# Altium footprint library fszhang.PcbLib: 298 footprints (part 1 of 19)
Each footprint in its own frame and in the unit in brackets; x right, y up, seen from the top. Pads: shape width x height; smd on the part's side, far side on the other; paste and mask are expansions set on the pad; w line width, h text height; cw(c..) or ccw(c..) is an arc to the next point about the centre after c.
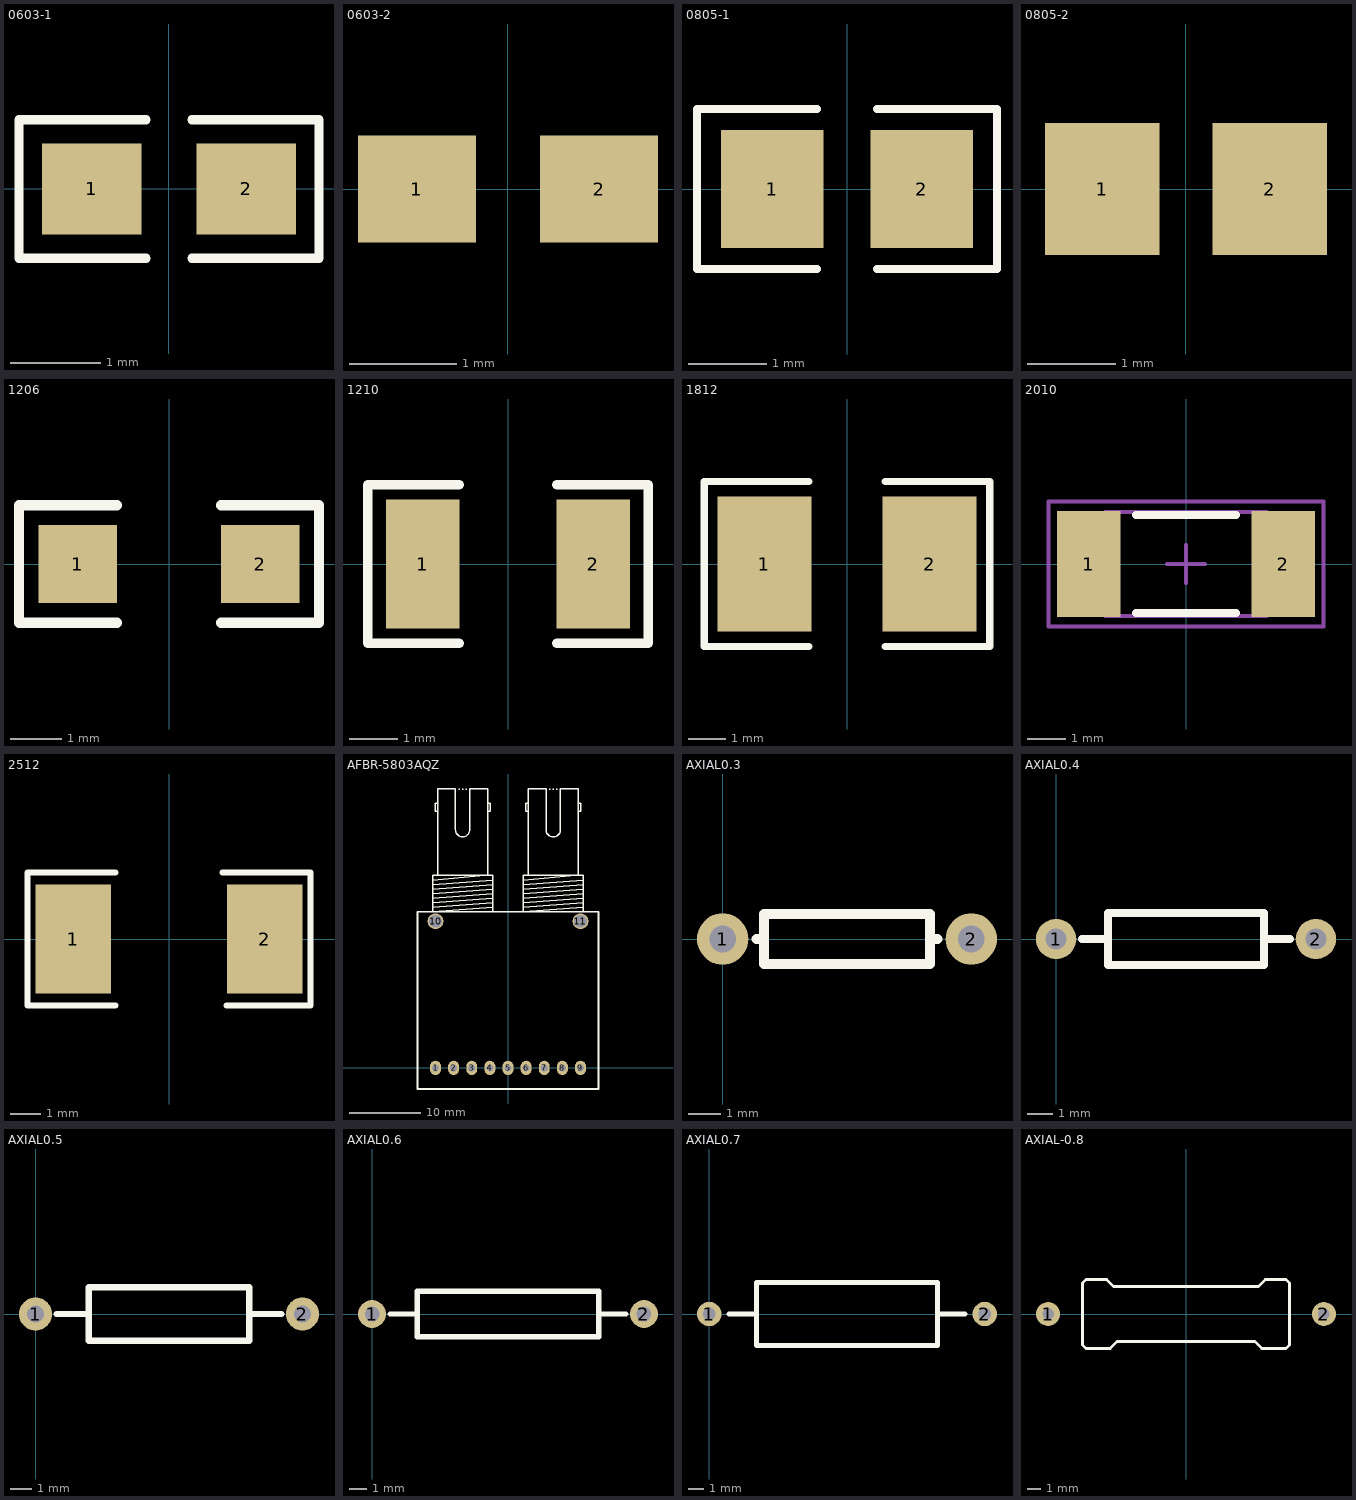
[diagram p0: the footprints below, top view; thin cyan lines are the x and y axes]

## 0603-1 [mm] "贴片带丝印"
height 0.6
pads (2):
  rect 1.1x1 smd: 1(-0.85,0) 2(0.85,0)
Top Overlay:
  lines w0.1: -0.254,-0.762 -1.651,-0.762 -1.651,0.762 -0.254,0.762 ; 0.254,-0.762 1.651,-0.762 1.651,0.762 0.254,0.762
3D body: height 1, standoff 0, extent -1.143,-0.381 1.143,0.381

## 0603-2 [mm] "贴片无丝印"
height 0.6
pads (2):
  rect 1.1x1 smd: 1(-0.85,0) 2(0.85,0)

## 0805-1 [mm] "贴片带丝印"
height 1.1
pads (2):
  rect 1.3x1.5 smd: 1(-0.95,0) 2(0.95,0)
Top Overlay:
  lines w0.1: -0.381,-1.016 -1.905,-1.016 -1.905,1.016 -0.381,1.016 ; 0.381,-1.016 1.905,-1.016 1.905,1.016 0.381,1.016
3D body: height 1, standoff 0, extent -1.143,-0.508 -1.016,0.508
3D body: height 1, standoff 0, extent 1.016,-0.508 1.143,0.508
3D body: height 1, standoff 0, extent -1.016,-0.508 1.016,0.508

## 0805-2 [mm] "贴片无丝印"
height 1
pads (2):
  rect 1.3x1.5 smd: 1(-0.95,0) 2(0.95,0)

## 1206 [mil] "贴片元件"
height 59.06
pads (2):
  rect 60x60 smd: 1(-70,0) 2(70,0)
Top Overlay:
  lines w7.87: -40,-45 -115,-45 -115,45 -40,45 ; 40,-45 115,-45 115,45 40,45
3D body: height 39.37, standoff 0, extent -55,-35 55,35
3D body: height 39.37, standoff 0, extent 55,-35 75,35
3D body: height 39.37, standoff 0, extent -75,-35 -55,35

## 1210 [mil] "贴片元件"
height 59.06
pads (2):
  rect 60x106.3 smd: 1(-70,0) 2(70,0)
Top Overlay:
  lines w7.87: -40,-65 -115,-65 -115,65 -40,65 ; 40,-65 115,-65 115,65 40,65
3D body: height 39.37, standoff 0, extent -65,-50 65,50

## 1812 [mm] "保险丝"
height 1
pads (2):
  rect 2.5x3.6 smd: 1(-2.2,0) 2(2.2,0)
Top Overlay:
  lines w0.2: -1.016,-2.2 -3.81,-2.2 -3.81,2.2 -1.016,2.2 ; 1.016,-2.2 3.81,-2.2 3.81,2.2 1.016,2.2
3D body: height 0.9, standoff 0, extent -2.54,0.635 -2.032,1.524
3D body: height 0.9, standoff 0, extent -2.54,-1.524 -2.032,-0.635
3D body: height 0.9, standoff 0, extent 2.159,-1.524 2.667,-0.635
3D body: height 0.9, standoff 0, extent 2.159,0.635 2.667,1.524
3D body: height 1.2, standoff 0, extent -2.286,-1.651 2.286,1.651

## 2010 [mm] "贴片电阻"
height 0.6
pads (2):
  rect 1.65x2.75 smd: 1(-2.525,0) 2(2.525,0)
Top Overlay:
  lines w0.2: -1.3,-1.275 1.3,-1.275 ; -1.3,1.275 1.3,1.275
Mechanical 13:
  lines w0.1: -2.1,-1.35 -2.1,1.35 2.1,1.35 2.1,-1.35 -2.1,-1.35
Mechanical 15:
  lines w0.1: -0.5,0 0.5,0 ; 0,-0.5 0,0.5 ; -3.575,-1.625 -3.575,1.625 3.575,1.625 3.575,-1.625 -3.575,-1.625
3D body: height 0.6, standoff 0, extent -2.1,-1.35 2.1,1.35

## 2512 [mm] "保险丝"
height 1
pads (2):
  rect 2.5x3.6 smd: 1(-3.175,0) 2(3.175,0)
Top Overlay:
  lines w0.2: -1.778,-2.2 -4.699,-2.2 -4.699,2.2 -1.778,2.2 ; 1.778,2.2 4.699,2.2 4.699,-2.2 1.905,-2.2
3D body: height 1.2, standoff 0, extent -3.175,-1.651 3.175,1.651
3D body: height 0.9, standoff 0, extent 2.159,0.635 2.667,1.524
3D body: height 0.9, standoff 0, extent 2.159,-1.524 2.667,-0.635
3D body: height 0.9, standoff 0, extent -2.54,-1.524 -2.032,-0.635
3D body: height 0.9, standoff 0, extent -2.54,0.635 -2.032,1.524

## AFBR-5803AQZ [mm] "光以太网"
height 14.8
pads (11):
  oval 1.524x2 hole 1: 1(-10.16,0) 2(-7.62,0) 3(-5.08,0) 4(-2.54,0) 5(0,0) 6(2.54,0) 7(5.08,0) 8(7.62,0) 9(10.16,0)
  round 2.2 hole 1.8: 10(-10.16,20.54) 11(10.16,20.54)
Top Overlay:
  lines w0.2: -10.559,23.15 -2.159,23.785 ; -10.559,23.785 -2.159,24.42 ; -10.559,24.42 -2.159,25.055 ; -10.559,25.055 -2.159,25.69 ; -10.559,25.69 -2.159,26.325 ; -10.559,26.325 -3.184,26.98 ; -10.55,22.515 -2.159,23.15 ; -9.859,35.985 -10.225,35.985 -10.225,37.085 -9.859,37.085 ; -7.359,33.378 ccw(c-6.359,33.378) -5.359,33.385 -5.359,39.08 -2.859,39.08 -2.859,26.98 -9.859,26.98 -9.859,39.08 -7.359,39.08 -7.359,33.378 ; -6.923,39.047 -6.796,39.047 ; -6.415,39.047 -6.288,39.047 ; -5.907,39.047 -5.78,39.047 ; -2.859,35.985 -2.478,35.985 -2.478,37.085 -2.859,37.085 ; -2.168,22.515 -10.559,21.88 ; 2.141,23.15 10.541,23.785 ; 2.141,23.785 10.541,24.42 ; 2.141,24.42 10.541,25.055 ; 2.141,25.055 10.541,25.69 ; 2.141,25.69 10.541,26.325 ; 2.141,26.325 9.516,26.98 ; 2.15,22.515 10.541,23.15 ; 2.841,35.985 2.475,35.985 2.475,37.085 2.841,37.085 ; 5.341,33.378 ccw(c6.341,33.378) 7.341,33.385 7.341,39.08 9.841,39.08 9.841,26.98 2.841,26.98 2.841,39.08 5.341,39.08 5.341,33.378 ; 5.777,39.047 5.904,39.047 ; 6.285,39.047 6.412,39.047 ; 6.793,39.047 6.92,39.047 ; 9.841,35.985 10.222,35.985 10.222,37.085 9.841,37.085 ; 10.532,22.515 2.141,21.88 ; -10.559,21.88 -10.559,26.98 -2.159,26.98 -2.159,21.88 -10.559,21.88 ; 2.141,21.88 2.141,26.98 10.541,26.98 10.541,21.88 2.141,21.88
  lines w0.254: -12.7,-2.965 12.7,-2.965 ; -12.7,-2.92 -12.7,21.88 12.7,21.88 12.7,-2.92

## AXIAL0.3 [mil]
pads (2):
  round 62 hole 32: 1(0,0) 2(300,0)
Top Overlay:
  lines w12: 41,0 50,0 ; 259,0 250,0 ; 250,0 250,30 50,30 50,-30 250,-30 250,0

## AXIAL0.4 [mil]
pads (2):
  round 62 hole 32: 1(0,0) 2(400,0)
Top Overlay:
  lines w12: 40,0 80,0 ; 320,0 360,0 ; 80,-40 320,-40 320,40 80,40 80,-40

## AXIAL0.5 [mil]
pads (2):
  round 62 hole 32: 1(0,0) 2(500,0)
Top Overlay:
  lines w12: 40,0 100,0 ; 400,0 460,0 ; 100,-50 100,50 400,50 400,-50 100,-50

## AXIAL0.6 [mil]
pads (2):
  round 62 hole 32: 1(0,0) 2(600,0)
Top Overlay:
  lines w12: 40,0 100,0 ; 500,0 560,0 ; 100,-50 500,-50 500,50 100,50 100,-50

## AXIAL0.7 [mil]
pads (2):
  round 62 hole 32: 1(0,0) 2(700,0)
Top Overlay:
  lines w12: 50,0 120,0 ; 580,0 650,0 ; 120,-80 120,80 580,80 580,-80 120,-80

## AXIAL-0.8 [mil] "插件电阻"
height 100
pads (2):
  round 70 hole 33.46: 1(-400,0) 2(400,0)
Top Overlay:
  lines w7.87: -300,-90 -290,-100 -220,-100 -200,-80 200,-80 220,-100 290,-100 300,-90 300,90 290,100 230,100 210,80 -210,80 -230,100 -290,100 -300,90 -300,-90
3D body: height 98.43, standoff 0, extent -407.81,-7.85 -392.12,7.86
3D body: height 98.43, standoff 0, extent 392.2,-7.85 407.88,7.87
3D body: height 106.24, standoff 90.55, extent 295,-6.44 405.24,9.27
3D body: height 106.24, standoff 90.55, extent -405.24,-6.44 -295,9.27
3D body: height 176.54, standoff 19.68, extent -216.53,-77.17 216.54,80
3D body: height 196.07, standoff 0, extent 216.26,-96.82 295,99.64
3D body: height 196.07, standoff 0, extent -295,-96.82 -216.26,99.64